# EAGLE library part TMS320C6474 (library EW_IC_Processors)
TMS320C6474 Multicore Digital Signal Processor Auto generated by make-symbol-device-package-bsdl.ulp Rev. 29 Source: sprm335.bsd http://focus.ti.com/lit/ds/symlink/tms320c6474.pdf Connect-List generated from TMS320C6474.DEV Variant '' with connect-device-split-symbol-03.ulp
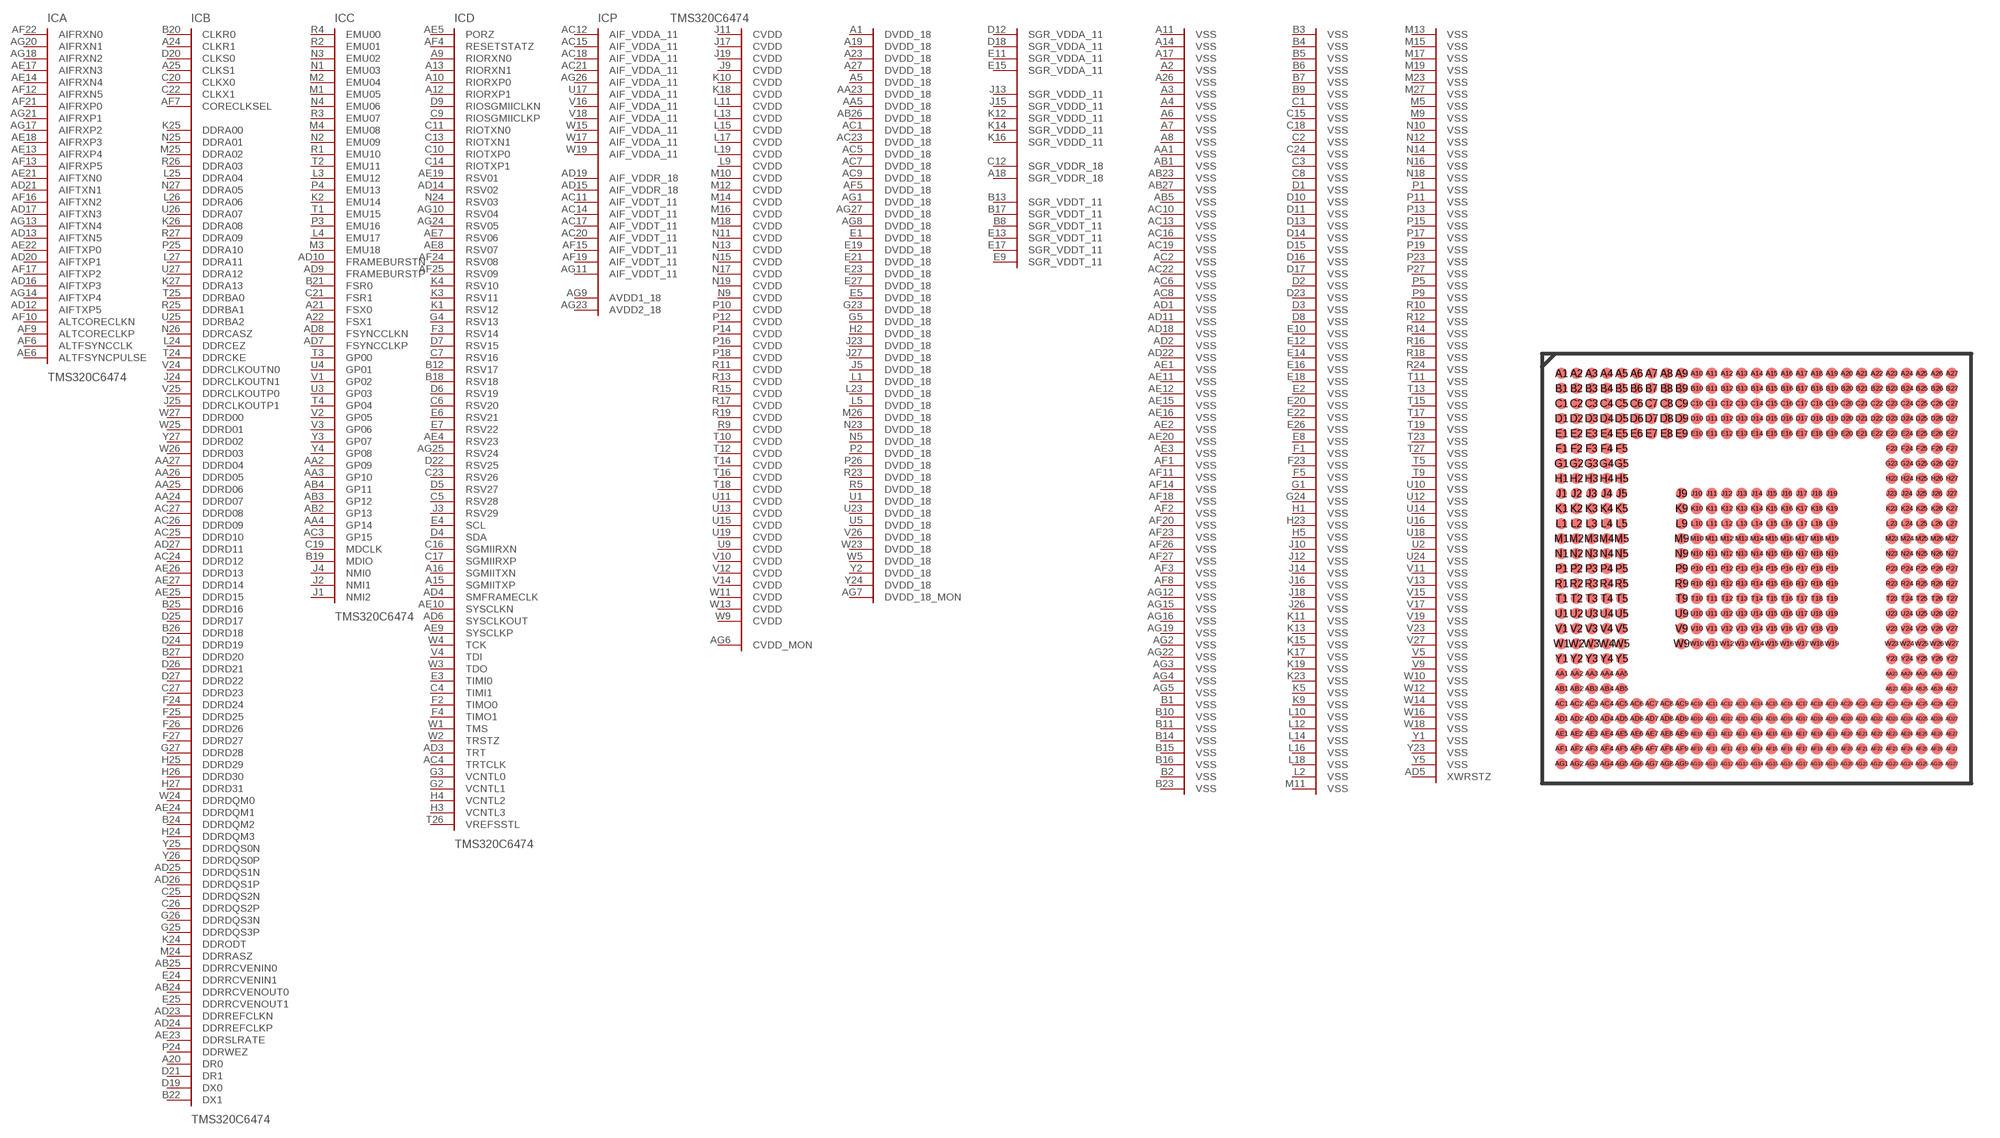
[diagram p25: symbol with the pads of ZUN_SPBGA-N561; footprint ZUN_SPBGA-N561]

Designator prefix IC; gates A=TMS320C6474-A B=TMS320C6474-B C=TMS320C6474-C D=TMS320C6474-D P=TMS320C6474-P

## TMS320C6474 (OC_FARNELL: 1791956; OC_NEWARK: unknown)  [ZUN_SPBGA-N561]
A1  P:DVDD_18  pas
A2  P:VSS  pas
A3  P:VSS  pas
A4  P:VSS  pas
A5  P:DVDD_18  pas
A6  P:VSS  pas
A7  P:VSS  pas
A8  P:VSS  pas
A9  D:RIORXN0  pas
A10  D:RIORXP0  pas
A11  P:VSS  pas
A12  D:RIORXP1  pas
A13  D:RIORXN1  pas
A14  P:VSS  pas
A15  D:SGMIITXP  pas
A16  D:SGMIITXN  pas
A17  P:VSS  pas
A18  P:SGR_VDDR_18  pas
A19  P:DVDD_18  pas
A20  B:DR0  pas
A21  C:FSX0  pas
A22  C:FSX1  pas
A23  P:DVDD_18  pas
A24  B:CLKR1  pas
A25  B:CLKS1  pas
A26  P:VSS  pas
A27  P:DVDD_18  pas
AA1  P:VSS  pas
AA2  C:GP09  pas
AA3  C:GP10  pas
AA4  C:GP14  pas
AA5  P:DVDD_18  pas
AA23  P:DVDD_18  pas
AA24  B:DDRD07  pas
AA25  B:DDRD06  pas
AA26  B:DDRD05  pas
AA27  B:DDRD04  pas
AB1  P:VSS  pas
AB2  C:GP13  pas
AB3  C:GP12  pas
AB4  C:GP11  pas
AB5  P:VSS  pas
AB23  P:VSS  pas
AB24  B:DDRRCVENOUT0  pas
AB25  B:DDRRCVENIN0  pas
AB26  P:DVDD_18  pas
AB27  P:VSS  pas
AC1  P:DVDD_18  pas
AC2  P:VSS  pas
AC3  C:GP15  pas
AC4  D:TRTCLK  pas
AC5  P:DVDD_18  pas
AC6  P:VSS  pas
AC7  P:DVDD_18  pas
AC8  P:VSS  pas
AC9  P:DVDD_18  pas
AC10  P:VSS  pas
AC11  P:AIF_VDDT_11  pas
AC12  P:AIF_VDDA_11  pas
AC13  P:VSS  pas
AC14  P:AIF_VDDT_11  pas
AC15  P:AIF_VDDA_11  pas
AC16  P:VSS  pas
AC17  P:AIF_VDDT_11  pas
AC18  P:AIF_VDDA_11  pas
AC19  P:VSS  pas
AC20  P:AIF_VDDT_11  pas
AC21  P:AIF_VDDA_11  pas
AC22  P:VSS  pas
AC23  P:DVDD_18  pas
AC24  B:DDRD12  pas
AC25  B:DDRD10  pas
AC26  B:DDRD09  pas
AC27  B:DDRD08  pas
AD1  P:VSS  pas
AD2  P:VSS  pas
AD3  D:TRT  pas
AD4  D:SMFRAMECLK  pas
AD5  P:XWRSTZ  pas
AD6  D:SYSCLKOUT  pas
AD7  C:FSYNCCLKP  pas
AD8  C:FSYNCCLKN  pas
AD9  C:FRAMEBURSTP  pas
AD10  C:FRAMEBURSTN  pas
AD11  P:VSS  pas
AD12  A:AIFTXP5  pas
AD13  A:AIFTXN5  pas
AD14  D:RSV02  pas
AD15  P:AIF_VDDR_18  pas
AD16  A:AIFTXP3  pas
AD17  A:AIFTXN3  pas
AD18  P:VSS  pas
AD19  P:AIF_VDDR_18  pas
AD20  A:AIFTXP1  pas
AD21  A:AIFTXN1  pas
AD22  P:VSS  pas
AD23  B:DDRREFCLKN  pas
AD24  B:DDRREFCLKP  pas
AD25  B:DDRDQS1N  pas
AD26  B:DDRDQS1P  pas
AD27  B:DDRD11  pas
AE1  P:VSS  pas
AE2  P:VSS  pas
AE3  P:VSS  pas
AE4  D:RSV23  pas
AE5  D:PORZ  pas
AE6  A:ALTFSYNCPULSE  pas
AE7  D:RSV06  pas
AE8  D:RSV07  pas
AE9  D:SYSCLKP  pas
AE10  D:SYSCLKN  pas
AE11  P:VSS  pas
AE12  P:VSS  pas
AE13  A:AIFRXP4  pas
AE14  A:AIFRXN4  pas
AE15  P:VSS  pas
AE16  P:VSS  pas
AE17  A:AIFRXN3  pas
AE18  A:AIFRXP3  pas
AE19  D:RSV01  pas
AE20  P:VSS  pas
AE21  A:AIFTXN0  pas
AE22  A:AIFTXP0  pas
AE23  B:DDRSLRATE  pas
AE24  B:DDRDQM1  pas
AE25  B:DDRD15  pas
AE26  B:DDRD13  pas
AE27  B:DDRD14  pas
AF1  P:VSS  pas
AF2  P:VSS  pas
AF3  P:VSS  pas
AF4  D:RESETSTATZ  pas
AF5  P:DVDD_18  pas
AF6  A:ALTFSYNCCLK  pas
AF7  B:CORECLKSEL  pas
AF8  P:VSS  pas
AF9  A:ALTCORECLKP  pas
AF10  A:ALTCORECLKN  pas
AF11  P:VSS  pas
AF12  A:AIFRXN5  pas
AF13  A:AIFRXP5  pas
AF14  P:VSS  pas
AF15  P:AIF_VDDT_11  pas
AF16  A:AIFTXN2  pas
AF17  A:AIFTXP2  pas
AF18  P:VSS  pas
AF19  P:AIF_VDDT_11  pas
AF20  P:VSS  pas
AF21  A:AIFRXP0  pas
AF22  A:AIFRXN0  pas
AF23  P:VSS  pas
AF24  D:RSV08  pas
AF25  D:RSV09  pas
AF26  P:VSS  pas
AF27  P:VSS  pas
AG1  P:DVDD_18  pas
AG2  P:VSS  pas
AG3  P:VSS  pas
AG4  P:VSS  pas
AG5  P:VSS  pas
AG6  P:CVDD_MON  pas
AG7  P:DVDD_18_MON  pas
AG8  P:DVDD_18  pas
AG9  P:AVDD1_18  pas
AG10  D:RSV04  pas
AG11  P:AIF_VDDT_11  pas
AG12  P:VSS  pas
AG13  A:AIFTXN4  pas
AG14  A:AIFTXP4  pas
AG15  P:VSS  pas
AG16  P:VSS  pas
AG17  A:AIFRXP2  pas
AG18  A:AIFRXN2  pas
AG19  P:VSS  pas
AG20  A:AIFRXN1  pas
AG21  A:AIFRXP1  pas
AG22  P:VSS  pas
AG23  P:AVDD2_18  pas
AG24  D:RSV05  pas
AG25  D:RSV24  pas
AG26  P:AIF_VDDA_11  pas
AG27  P:DVDD_18  pas
B1  P:VSS  pas
B2  P:VSS  pas
B3  P:VSS  pas
B4  P:VSS  pas
B5  P:VSS  pas
B6  P:VSS  pas
B7  P:VSS  pas
B8  P:SGR_VDDT_11  pas
B9  P:VSS  pas
B10  P:VSS  pas
B11  P:VSS  pas
B12  D:RSV17  pas
B13  P:SGR_VDDT_11  pas
B14  P:VSS  pas
B15  P:VSS  pas
B16  P:VSS  pas
B17  P:SGR_VDDT_11  pas
B18  D:RSV18  pas
B19  C:MDIO  pas
B20  B:CLKR0  pas
B21  C:FSR0  pas
B22  B:DX1  pas
B23  P:VSS  pas
B24  B:DDRDQM2  pas
B25  B:DDRD16  pas
B26  B:DDRD18  pas
B27  B:DDRD20  pas
C1  P:VSS  pas
C2  P:VSS  pas
C3  P:VSS  pas
C4  D:TIMI1  pas
C5  D:RSV28  pas
C6  D:RSV20  pas
C7  D:RSV16  pas
C8  P:VSS  pas
C9  D:RIOSGMIICLKP  pas
C10  D:RIOTXP0  pas
C11  D:RIOTXN0  pas
C12  P:SGR_VDDR_18  pas
C13  D:RIOTXN1  pas
C14  D:RIOTXP1  pas
C15  P:VSS  pas
C16  D:SGMIIRXN  pas
C17  D:SGMIIRXP  pas
C18  P:VSS  pas
C19  C:MDCLK  pas
C20  B:CLKX0  pas
C21  C:FSR1  pas
C22  B:CLKX1  pas
C23  D:RSV26  pas
C24  P:VSS  pas
C25  B:DDRDQS2N  pas
C26  B:DDRDQS2P  pas
C27  B:DDRD23  pas
D1  P:VSS  pas
D2  P:VSS  pas
D3  P:VSS  pas
D4  D:SDA  pas
D5  D:RSV27  pas
D6  D:RSV19  pas
D7  D:RSV15  pas
D8  P:VSS  pas
D9  D:RIOSGMIICLKN  pas
D10  P:VSS  pas
D11  P:VSS  pas
D12  P:SGR_VDDA_11  pas
D13  P:VSS  pas
D14  P:VSS  pas
D15  P:VSS  pas
D16  P:VSS  pas
D17  P:VSS  pas
D18  P:SGR_VDDA_11  pas
D19  B:DX0  pas
D20  B:CLKS0  pas
D21  B:DR1  pas
D22  D:RSV25  pas
D23  P:VSS  pas
D24  B:DDRD19  pas
D25  B:DDRD17  pas
D26  B:DDRD21  pas
D27  B:DDRD22  pas
E1  P:DVDD_18  pas
E2  P:VSS  pas
E3  D:TIMI0  pas
E4  D:SCL  pas
E5  P:DVDD_18  pas
E6  D:RSV21  pas
E7  D:RSV22  pas
E8  P:VSS  pas
E9  P:SGR_VDDT_11  pas
E10  P:VSS  pas
E11  P:SGR_VDDA_11  pas
E12  P:VSS  pas
E13  P:SGR_VDDT_11  pas
E14  P:VSS  pas
E15  P:SGR_VDDA_11  pas
E16  P:VSS  pas
E17  P:SGR_VDDT_11  pas
E18  P:VSS  pas
E19  P:DVDD_18  pas
E20  P:VSS  pas
E21  P:DVDD_18  pas
E22  P:VSS  pas
E23  P:DVDD_18  pas
E24  B:DDRRCVENIN1  pas
E25  B:DDRRCVENOUT1  pas
E26  P:VSS  pas
E27  P:DVDD_18  pas
F1  P:VSS  pas
F2  D:TIMO0  pas
F3  D:RSV14  pas
F4  D:TIMO1  pas
F5  P:VSS  pas
F23  P:VSS  pas
F24  B:DDRD24  pas
F25  B:DDRD25  pas
F26  B:DDRD26  pas
F27  B:DDRD27  pas
G1  P:VSS  pas
G2  D:VCNTL1  pas
G3  D:VCNTL0  pas
G4  D:RSV13  pas
G5  P:DVDD_18  pas
G23  P:DVDD_18  pas
G24  P:VSS  pas
G25  B:DDRDQS3P  pas
G26  B:DDRDQS3N  pas
G27  B:DDRD28  pas
H1  P:VSS  pas
H2  P:DVDD_18  pas
H3  D:VCNTL3  pas
H4  D:VCNTL2  pas
H5  P:VSS  pas
H23  P:VSS  pas
H24  B:DDRDQM3  pas
H25  B:DDRD29  pas
H26  B:DDRD30  pas
H27  B:DDRD31  pas
J1  C:NMI2  pas
J2  C:NMI1  pas
J3  D:RSV29  pas
J4  C:NMI0  pas
J5  P:DVDD_18  pas
J9  P:CVDD  pas
J10  P:VSS  pas
J11  P:CVDD  pas
J12  P:VSS  pas
J13  P:SGR_VDDD_11  pas
J14  P:VSS  pas
J15  P:SGR_VDDD_11  pas
J16  P:VSS  pas
J17  P:CVDD  pas
J18  P:VSS  pas
J19  P:CVDD  pas
J23  P:DVDD_18  pas
J24  B:DDRCLKOUTN1  pas
J25  B:DDRCLKOUTP1  pas
J26  P:VSS  pas
J27  P:DVDD_18  pas
K1  D:RSV12  pas
K2  C:EMU14  pas
K3  D:RSV11  pas
K4  D:RSV10  pas
K5  P:VSS  pas
K9  P:VSS  pas
K10  P:CVDD  pas
K11  P:VSS  pas
K12  P:SGR_VDDD_11  pas
K13  P:VSS  pas
K14  P:SGR_VDDD_11  pas
K15  P:VSS  pas
K16  P:SGR_VDDD_11  pas
K17  P:VSS  pas
K18  P:CVDD  pas
K19  P:VSS  pas
K23  P:VSS  pas
K24  B:DDRODT  pas
K25  B:DDRA00  pas
K26  B:DDRA08  pas
K27  B:DDRA13  pas
L1  P:DVDD_18  pas
L2  P:VSS  pas
L3  C:EMU12  pas
L4  C:EMU17  pas
L5  P:DVDD_18  pas
L9  P:CVDD  pas
L10  P:VSS  pas
L11  P:CVDD  pas
L12  P:VSS  pas
L13  P:CVDD  pas
L14  P:VSS  pas
L15  P:CVDD  pas
L16  P:VSS  pas
L17  P:CVDD  pas
L18  P:VSS  pas
L19  P:CVDD  pas
L23  P:DVDD_18  pas
L24  B:DDRCEZ  pas
L25  B:DDRA04  pas
L26  B:DDRA06  pas
L27  B:DDRA11  pas
M1  C:EMU05  pas
M2  C:EMU04  pas
M3  C:EMU18  pas
M4  C:EMU08  pas
M5  P:VSS  pas
M9  P:VSS  pas
M10  P:CVDD  pas
M11  P:VSS  pas
M12  P:CVDD  pas
M13  P:VSS  pas
M14  P:CVDD  pas
M15  P:VSS  pas
M16  P:CVDD  pas
M17  P:VSS  pas
M18  P:CVDD  pas
M19  P:VSS  pas
M23  P:VSS  pas
M24  B:DDRRASZ  pas
M25  B:DDRA02  pas
M26  P:DVDD_18  pas
M27  P:VSS  pas
N1  C:EMU03  pas
N2  C:EMU09  pas
N3  C:EMU02  pas
N4  C:EMU06  pas
N5  P:DVDD_18  pas
N9  P:CVDD  pas
N10  P:VSS  pas
N11  P:CVDD  pas
N12  P:VSS  pas
N13  P:CVDD  pas
N14  P:VSS  pas
N15  P:CVDD  pas
N16  P:VSS  pas
N17  P:CVDD  pas
N18  P:VSS  pas
N19  P:CVDD  pas
N23  P:DVDD_18  pas
N24  D:RSV03  pas
N25  B:DDRA01  pas
N26  B:DDRCASZ  pas
N27  B:DDRA05  pas
P1  P:VSS  pas
P2  P:DVDD_18  pas
P3  C:EMU16  pas
P4  C:EMU13  pas
P5  P:VSS  pas
P9  P:VSS  pas
P10  P:CVDD  pas
P11  P:VSS  pas
P12  P:CVDD  pas
P13  P:VSS  pas
P14  P:CVDD  pas
P15  P:VSS  pas
P16  P:CVDD  pas
P17  P:VSS  pas
P18  P:CVDD  pas
P19  P:VSS  pas
P23  P:VSS  pas
P24  B:DDRWEZ  pas
P25  B:DDRA10  pas
P26  P:DVDD_18  pas
P27  P:VSS  pas
R1  C:EMU10  pas
R2  C:EMU01  pas
R3  C:EMU07  pas
R4  C:EMU00  pas
R5  P:DVDD_18  pas
R9  P:CVDD  pas
R10  P:VSS  pas
R11  P:CVDD  pas
R12  P:VSS  pas
R13  P:CVDD  pas
R14  P:VSS  pas
R15  P:CVDD  pas
R16  P:VSS  pas
R17  P:CVDD  pas
R18  P:VSS  pas
R19  P:CVDD  pas
R23  P:DVDD_18  pas
R24  P:VSS  pas
R25  B:DDRBA1  pas
R26  B:DDRA03  pas
R27  B:DDRA09  pas
T1  C:EMU15  pas
T2  C:EMU11  pas
T3  C:GP00  pas
T4  C:GP04  pas
T5  P:VSS  pas
T9  P:VSS  pas
T10  P:CVDD  pas
T11  P:VSS  pas
T12  P:CVDD  pas
T13  P:VSS  pas
T14  P:CVDD  pas
T15  P:VSS  pas
T16  P:CVDD  pas
T17  P:VSS  pas
T18  P:CVDD  pas
T19  P:VSS  pas
T23  P:VSS  pas
T24  B:DDRCKE  pas
T25  B:DDRBA0  pas
T26  D:VREFSSTL  pas
T27  P:VSS  pas
U1  P:DVDD_18  pas
U2  P:VSS  pas
U3  C:GP03  pas
U4  C:GP01  pas
U5  P:DVDD_18  pas
U9  P:CVDD  pas
U10  P:VSS  pas
U11  P:CVDD  pas
U12  P:VSS  pas
U13  P:CVDD  pas
U14  P:VSS  pas
U15  P:CVDD  pas
U16  P:VSS  pas
U17  P:AIF_VDDA_11  pas
U18  P:VSS  pas
U19  P:CVDD  pas
U23  P:DVDD_18  pas
U24  P:VSS  pas
U25  B:DDRBA2  pas
U26  B:DDRA07  pas
U27  B:DDRA12  pas
V1  C:GP02  pas
V2  C:GP05  pas
V3  C:GP06  pas
V4  D:TDI  pas
V5  P:VSS  pas
V9  P:VSS  pas
V10  P:CVDD  pas
V11  P:VSS  pas
V12  P:CVDD  pas
V13  P:VSS  pas
V14  P:CVDD  pas
V15  P:VSS  pas
V16  P:AIF_VDDA_11  pas
V17  P:VSS  pas
V18  P:AIF_VDDA_11  pas
V19  P:VSS  pas
V23  P:VSS  pas
V24  B:DDRCLKOUTN0  pas
V25  B:DDRCLKOUTP0  pas
V26  P:DVDD_18  pas
V27  P:VSS  pas
W1  D:TMS  pas
W2  D:TRSTZ  pas
W3  D:TDO  pas
W4  D:TCK  pas
W5  P:DVDD_18  pas
W9  P:CVDD  pas
W10  P:VSS  pas
W11  P:CVDD  pas
W12  P:VSS  pas
W13  P:CVDD  pas
W14  P:VSS  pas
W15  P:AIF_VDDA_11  pas
W16  P:VSS  pas
W17  P:AIF_VDDA_11  pas
W18  P:VSS  pas
W19  P:AIF_VDDA_11  pas
W23  P:DVDD_18  pas
W24  B:DDRDQM0  pas
W25  B:DDRD01  pas
W26  B:DDRD03  pas
W27  B:DDRD00  pas
Y1  P:VSS  pas
Y2  P:DVDD_18  pas
Y3  C:GP07  pas
Y4  C:GP08  pas
Y5  P:VSS  pas
Y23  P:VSS  pas
Y24  P:DVDD_18  pas
Y25  B:DDRDQS0N  pas
Y26  B:DDRDQS0P  pas
Y27  B:DDRD02  pas

## Footprint ZUN_SPBGA-N561 (pad centres in mm)
ZUN (S-PBGA-N561) OLASTIC BALL GRID ARRAY Auto generated by make-symbol-device-package-bsdl.ulp Rev. 29 Source: sprm335.bsd http://focus.ti.com/lit/ds/symlink/tms320c6474.pdf
smd 0.6 x 0.6: A1 -10.4,10.4; A2 -9.6,10.4; A3 -8.8,10.4; A4 -8,10.4; A5 -7.2,10.4; A6 -6.4,10.4; A7 -5.6,10.4; A8 -4.8,10.4; A9 -4,10.4; A10 -3.2,10.4; A11 -2.4,10.4; A12 -1.6,10.4; A13 -0.8,10.4; A14 0,10.4; A15 0.8,10.4; A16 1.6,10.4; A17 2.4,10.4; A18 3.2,10.4; A19 4,10.4; A20 4.8,10.4; A21 5.6,10.4; A22 6.4,10.4; A23 7.2,10.4; A24 8,10.4; A25 8.8,10.4; A26 9.6,10.4; A27 10.4,10.4; AA1 -10.4,-5.6; AA2 -9.6,-5.6; AA3 -8.8,-5.6; AA4 -8,-5.6; AA5 -7.2,-5.6; AA23 7.2,-5.6; AA24 8,-5.6; AA25 8.8,-5.6; AA26 9.6,-5.6; AA27 10.4,-5.6; AB1 -10.4,-6.4; AB2 -9.6,-6.4; AB3 -8.8,-6.4; AB4 -8,-6.4; AB5 -7.2,-6.4; AB23 7.2,-6.4; AB24 8,-6.4; AB25 8.8,-6.4; AB26 9.6,-6.4; AB27 10.4,-6.4; AC1 -10.4,-7.2; AC2 -9.6,-7.2; AC3 -8.8,-7.2; AC4 -8,-7.2; AC5 -7.2,-7.2; AC6 -6.4,-7.2; AC7 -5.6,-7.2; AC8 -4.8,-7.2; AC9 -4,-7.2; AC10 -3.2,-7.2; AC11 -2.4,-7.2; AC12 -1.6,-7.2; AC13 -0.8,-7.2; AC14 0,-7.2; AC15 0.8,-7.2; AC16 1.6,-7.2; AC17 2.4,-7.2; AC18 3.2,-7.2; AC19 4,-7.2; AC20 4.8,-7.2; AC21 5.6,-7.2; AC22 6.4,-7.2; AC23 7.2,-7.2; AC24 8,-7.2; AC25 8.8,-7.2; AC26 9.6,-7.2; AC27 10.4,-7.2; AD1 -10.4,-8; AD2 -9.6,-8; AD3 -8.8,-8; AD4 -8,-8; AD5 -7.2,-8; AD6 -6.4,-8; AD7 -5.6,-8; AD8 -4.8,-8; AD9 -4,-8; AD10 -3.2,-8; AD11 -2.4,-8; AD12 -1.6,-8; AD13 -0.8,-8; AD14 0,-8; AD15 0.8,-8; AD16 1.6,-8; AD17 2.4,-8; AD18 3.2,-8; AD19 4,-8; AD20 4.8,-8; AD21 5.6,-8; AD22 6.4,-8; AD23 7.2,-8; AD24 8,-8; AD25 8.8,-8; AD26 9.6,-8; AD27 10.4,-8; AE1 -10.4,-8.8; AE2 -9.6,-8.8; AE3 -8.8,-8.8; AE4 -8,-8.8; AE5 -7.2,-8.8; AE6 -6.4,-8.8; AE7 -5.6,-8.8; AE8 -4.8,-8.8; AE9 -4,-8.8; AE10 -3.2,-8.8; AE11 -2.4,-8.8; AE12 -1.6,-8.8; AE13 -0.8,-8.8; AE14 0,-8.8; AE15 0.8,-8.8; AE16 1.6,-8.8; AE17 2.4,-8.8; AE18 3.2,-8.8; AE19 4,-8.8; AE20 4.8,-8.8; AE21 5.6,-8.8; AE22 6.4,-8.8; AE23 7.2,-8.8; AE24 8,-8.8; AE25 8.8,-8.8; AE26 9.6,-8.8; AE27 10.4,-8.8; AF1 -10.4,-9.6; AF2 -9.6,-9.6; AF3 -8.8,-9.6; AF4 -8,-9.6; AF5 -7.2,-9.6; AF6 -6.4,-9.6; AF7 -5.6,-9.6; AF8 -4.8,-9.6; AF9 -4,-9.6; AF10 -3.2,-9.6; AF11 -2.4,-9.6; AF12 -1.6,-9.6; AF13 -0.8,-9.6; AF14 0,-9.6; AF15 0.8,-9.6; AF16 1.6,-9.6; AF17 2.4,-9.6; AF18 3.2,-9.6; AF19 4,-9.6; AF20 4.8,-9.6; AF21 5.6,-9.6; AF22 6.4,-9.6; AF23 7.2,-9.6; AF24 8,-9.6; AF25 8.8,-9.6; AF26 9.6,-9.6; AF27 10.4,-9.6; AG1 -10.4,-10.4; AG2 -9.6,-10.4; AG3 -8.8,-10.4; AG4 -8,-10.4; AG5 -7.2,-10.4; AG6 -6.4,-10.4; AG7 -5.6,-10.4; AG8 -4.8,-10.4; AG9 -4,-10.4; AG10 -3.2,-10.4; AG11 -2.4,-10.4; AG12 -1.6,-10.4; AG13 -0.8,-10.4; AG14 0,-10.4; AG15 0.8,-10.4; AG16 1.6,-10.4; AG17 2.4,-10.4; AG18 3.2,-10.4; AG19 4,-10.4; AG20 4.8,-10.4; AG21 5.6,-10.4; AG22 6.4,-10.4; AG23 7.2,-10.4; AG24 8,-10.4; AG25 8.8,-10.4; AG26 9.6,-10.4; AG27 10.4,-10.4; B1 -10.4,9.6; B2 -9.6,9.6; B3 -8.8,9.6; B4 -8,9.6; B5 -7.2,9.6; B6 -6.4,9.6; B7 -5.6,9.6; B8 -4.8,9.6; B9 -4,9.6; B10 -3.2,9.6; B11 -2.4,9.6; B12 -1.6,9.6; B13 -0.8,9.6; B14 0,9.6; B15 0.8,9.6; B16 1.6,9.6; B17 2.4,9.6; B18 3.2,9.6; B19 4,9.6; B20 4.8,9.6; B21 5.6,9.6; B22 6.4,9.6; B23 7.2,9.6; B24 8,9.6; B25 8.8,9.6; B26 9.6,9.6; B27 10.4,9.6; C1 -10.4,8.8; C2 -9.6,8.8; C3 -8.8,8.8; C4 -8,8.8; C5 -7.2,8.8; C6 -6.4,8.8; C7 -5.6,8.8; C8 -4.8,8.8; C9 -4,8.8; C10 -3.2,8.8; C11 -2.4,8.8; C12 -1.6,8.8; C13 -0.8,8.8; C14 0,8.8; C15 0.8,8.8; C16 1.6,8.8; C17 2.4,8.8; C18 3.2,8.8; C19 4,8.8; C20 4.8,8.8; C21 5.6,8.8; C22 6.4,8.8; C23 7.2,8.8; C24 8,8.8; C25 8.8,8.8; C26 9.6,8.8; C27 10.4,8.8; D1 -10.4,8; D2 -9.6,8; D3 -8.8,8; D4 -8,8; D5 -7.2,8; D6 -6.4,8; D7 -5.6,8; D8 -4.8,8; D9 -4,8; D10 -3.2,8; D11 -2.4,8; D12 -1.6,8; D13 -0.8,8; D14 0,8; D15 0.8,8; D16 1.6,8; D17 2.4,8; D18 3.2,8; D19 4,8; D20 4.8,8; D21 5.6,8; D22 6.4,8; D23 7.2,8; D24 8,8; D25 8.8,8; D26 9.6,8; D27 10.4,8; E1 -10.4,7.2; E2 -9.6,7.2; E3 -8.8,7.2; E4 -8,7.2; E5 -7.2,7.2; E6 -6.4,7.2; E7 -5.6,7.2; E8 -4.8,7.2; E9 -4,7.2; E10 -3.2,7.2; E11 -2.4,7.2; E12 -1.6,7.2; E13 -0.8,7.2; E14 0,7.2; E15 0.8,7.2; E16 1.6,7.2; E17 2.4,7.2; E18 3.2,7.2; E19 4,7.2; E20 4.8,7.2; E21 5.6,7.2; E22 6.4,7.2; E23 7.2,7.2; E24 8,7.2; E25 8.8,7.2; E26 9.6,7.2; E27 10.4,7.2; F1 -10.4,6.4; F2 -9.6,6.4; F3 -8.8,6.4; F4 -8,6.4; F5 -7.2,6.4; F23 7.2,6.4; F24 8,6.4; F25 8.8,6.4; F26 9.6,6.4; F27 10.4,6.4; G1 -10.4,5.6; G2 -9.6,5.6; G3 -8.8,5.6; G4 -8,5.6; G5 -7.2,5.6; G23 7.2,5.6; G24 8,5.6; G25 8.8,5.6; G26 9.6,5.6; G27 10.4,5.6; H1 -10.4,4.8; H2 -9.6,4.8; H3 -8.8,4.8; H4 -8,4.8; H5 -7.2,4.8; H23 7.2,4.8; H24 8,4.8; H25 8.8,4.8; H26 9.6,4.8; H27 10.4,4.8; J1 -10.4,4; J2 -9.6,4; J3 -8.8,4; J4 -8,4; J5 -7.2,4; J9 -4,4; J10 -3.2,4; J11 -2.4,4; J12 -1.6,4; J13 -0.8,4; J14 0,4; J15 0.8,4; J16 1.6,4; J17 2.4,4; J18 3.2,4; J19 4,4; J23 7.2,4; J24 8,4; J25 8.8,4; J26 9.6,4; J27 10.4,4; K1 -10.4,3.2; K2 -9.6,3.2; K3 -8.8,3.2; K4 -8,3.2; K5 -7.2,3.2; K9 -4,3.2; K10 -3.2,3.2; K11 -2.4,3.2; K12 -1.6,3.2; K13 -0.8,3.2; K14 0,3.2; K15 0.8,3.2; K16 1.6,3.2; K17 2.4,3.2; K18 3.2,3.2; K19 4,3.2; K23 7.2,3.2; K24 8,3.2; K25 8.8,3.2; K26 9.6,3.2; K27 10.4,3.2; L1 -10.4,2.4; L2 -9.6,2.4; L3 -8.8,2.4; L4 -8,2.4; L5 -7.2,2.4; L9 -4,2.4; L10 -3.2,2.4; L11 -2.4,2.4; L12 -1.6,2.4; L13 -0.8,2.4; L14 0,2.4; L15 0.8,2.4; L16 1.6,2.4; L17 2.4,2.4; L18 3.2,2.4; L19 4,2.4; L23 7.2,2.4; L24 8,2.4; L25 8.8,2.4; L26 9.6,2.4; L27 10.4,2.4; M1 -10.4,1.6; M2 -9.6,1.6; M3 -8.8,1.6; M4 -8,1.6; M5 -7.2,1.6; M9 -4,1.6; M10 -3.2,1.6; M11 -2.4,1.6; M12 -1.6,1.6; M13 -0.8,1.6; M14 0,1.6; M15 0.8,1.6; M16 1.6,1.6; M17 2.4,1.6; M18 3.2,1.6; M19 4,1.6; M23 7.2,1.6; M24 8,1.6; M25 8.8,1.6; M26 9.6,1.6; M27 10.4,1.6; N1 -10.4,0.8; N2 -9.6,0.8; N3 -8.8,0.8; N4 -8,0.8; N5 -7.2,0.8; N9 -4,0.8; N10 -3.2,0.8; N11 -2.4,0.8; N12 -1.6,0.8; N13 -0.8,0.8; N14 0,0.8; N15 0.8,0.8; N16 1.6,0.8; N17 2.4,0.8; N18 3.2,0.8; N19 4,0.8; N23 7.2,0.8; N24 8,0.8; N25 8.8,0.8; N26 9.6,0.8; N27 10.4,0.8; P1 -10.4,0; P2 -9.6,0; P3 -8.8,0; P4 -8,0; P5 -7.2,0; P9 -4,0; P10 -3.2,0; P11 -2.4,0; P12 -1.6,0; P13 -0.8,0; P14 0,0; P15 0.8,0; P16 1.6,0; P17 2.4,0; P18 3.2,0; P19 4,0; P23 7.2,0; P24 8,0; P25 8.8,0; P26 9.6,0; P27 10.4,0; R1 -10.4,-0.8; R2 -9.6,-0.8; R3 -8.8,-0.8; R4 -8,-0.8; R5 -7.2,-0.8; R9 -4,-0.8; R10 -3.2,-0.8; R11 -2.4,-0.8; R12 -1.6,-0.8; R13 -0.8,-0.8; R14 0,-0.8; R15 0.8,-0.8; R16 1.6,-0.8; R17 2.4,-0.8; R18 3.2,-0.8; R19 4,-0.8; R23 7.2,-0.8; R24 8,-0.8; R25 8.8,-0.8; R26 9.6,-0.8; R27 10.4,-0.8; T1 -10.4,-1.6; T2 -9.6,-1.6; T3 -8.8,-1.6; T4 -8,-1.6; T5 -7.2,-1.6; T9 -4,-1.6; T10 -3.2,-1.6; T11 -2.4,-1.6; T12 -1.6,-1.6; T13 -0.8,-1.6; T14 0,-1.6; T15 0.8,-1.6; T16 1.6,-1.6; T17 2.4,-1.6; T18 3.2,-1.6; T19 4,-1.6; T23 7.2,-1.6; T24 8,-1.6; T25 8.8,-1.6; T26 9.6,-1.6; T27 10.4,-1.6; U1 -10.4,-2.4; U2 -9.6,-2.4; U3 -8.8,-2.4; U4 -8,-2.4; U5 -7.2,-2.4; U9 -4,-2.4; U10 -3.2,-2.4; U11 -2.4,-2.4; U12 -1.6,-2.4; U13 -0.8,-2.4; U14 0,-2.4; U15 0.8,-2.4; U16 1.6,-2.4; U17 2.4,-2.4; U18 3.2,-2.4; U19 4,-2.4; U23 7.2,-2.4; U24 8,-2.4; U25 8.8,-2.4; U26 9.6,-2.4; U27 10.4,-2.4; V1 -10.4,-3.2; V2 -9.6,-3.2; V3 -8.8,-3.2; V4 -8,-3.2; V5 -7.2,-3.2; V9 -4,-3.2; V10 -3.2,-3.2; V11 -2.4,-3.2; V12 -1.6,-3.2; V13 -0.8,-3.2; V14 0,-3.2; V15 0.8,-3.2; V16 1.6,-3.2; V17 2.4,-3.2; V18 3.2,-3.2; V19 4,-3.2; V23 7.2,-3.2; V24 8,-3.2; V25 8.8,-3.2; V26 9.6,-3.2; V27 10.4,-3.2; W1 -10.4,-4; W2 -9.6,-4; W3 -8.8,-4; W4 -8,-4; W5 -7.2,-4; W9 -4,-4; W10 -3.2,-4; W11 -2.4,-4; W12 -1.6,-4; W13 -0.8,-4; W14 0,-4; W15 0.8,-4; W16 1.6,-4; W17 2.4,-4; W18 3.2,-4; W19 4,-4; W23 7.2,-4; W24 8,-4; W25 8.8,-4; W26 9.6,-4; W27 10.4,-4; Y1 -10.4,-4.8; Y2 -9.6,-4.8; Y3 -8.8,-4.8; Y4 -8,-4.8; Y5 -7.2,-4.8; Y23 7.2,-4.8; Y24 8,-4.8; Y25 8.8,-4.8; Y26 9.6,-4.8; Y27 10.4,-4.8